# EAGLE library part MAXSONAR (library custom-connectors)
General pinout of Maxbotix Sonar Sensors http://www.maxbotix.com/
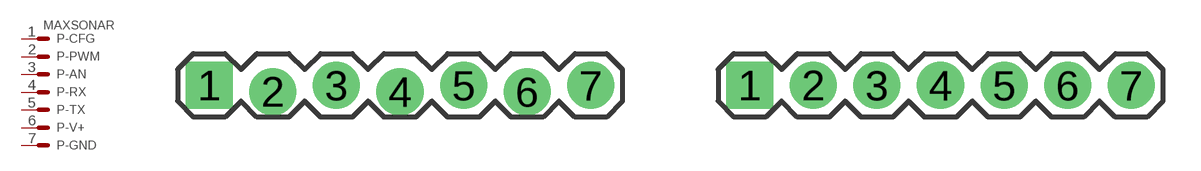
[diagram p12: symbol with the pads of 1X07_LOCK; footprints 1X07_LOCK, 1X07_LOCK_STRAIGHT]

Designator prefix P; gates -CFG=MV -PWM=M -AN=M -RX=M -TX=M -V+=M -GND=M

## MAXSONAR_A  [1X07_LOCK]
1  -CFG:S  pas
2  -PWM:S  pas
3  -AN:S  pas
4  -RX:S  pas
5  -TX:S  pas
6  -V+:S  pas
7  -GND:S  pas

## MAXSONAR  [1X07_LOCK_STRAIGHT]
Pads as for 1X07_LOCK

## Footprint 1X07_LOCK (pad centres in mm)
drill 1.016 pad 1.88 square: 1 -7.62,0
drill 1.016 pad 1.88: 2 -5.08,-0.254; 3 -2.54,0; 4 0,-0.254; 5 2.54,0; 6 5.08,-0.254; 7 7.62,0

## Footprint 1X07_LOCK_STRAIGHT (pad centres in mm)
drill 1.016 pad 1.88 square: 1 -7.62,0
drill 1.016 pad 1.88: 2 -5.08,0; 3 -2.54,0; 4 0,0; 5 2.54,0; 6 5.08,0; 7 7.62,0